# EAGLE library part CON20P-TABS (library Connectors)
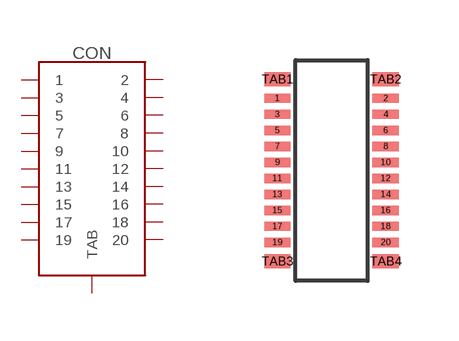
[diagram p5: symbol with the pads of DF40C-20DP-0.4V; footprint DF40C-20DP-0.4V]

Designator prefix CON

## CON20P-TABS (MANF: HIROSE; MANF#: DF40C-20DP)  [DF40C-20DP-0.4V]
1  1
2  2
3  3
4  4
5  5
6  6
7  7
8  8
9  9
10  10
11  11
12  12
13  13
14  14
15  15
16  16
17  17
18  18
19  19
20  20
TAB1  TAB
TAB2  TAB
TAB3  TAB
TAB4  TAB

## Footprint DF40C-20DP-0.4V (pad centres in mm)
3D model <https://www.hirose.com/product/p/CL0684-4010-9-51>
smd 0.66 x 0.23: 1 -1.355,1.8; 2 1.355,1.8; 3 -1.355,1.4; 4 1.355,1.4; 5 -1.355,1; 6 1.355,1; 7 -1.355,0.6; 8 1.355,0.6; 9 -1.355,0.2; 10 1.355,0.2; 11 -1.355,-0.2; 12 1.355,-0.2; 13 -1.355,-0.6; 14 1.355,-0.6; 15 -1.355,-1; 16 1.355,-1; 17 -1.355,-1.4; 18 1.355,-1.4; 19 -1.355,-1.8; 20 1.355,-1.8
smd 0.66 x 0.35: TAB1 -1.355,2.275; TAB2 1.355,2.275; TAB3 -1.355,-2.275; TAB4 1.355,-2.275